# Altium footprint library SIP900W100P500L1000H1250Q2.PcbLib: 1 footprints
Each footprint in its own frame and in the unit in brackets; x right, y up, seen from the top. Pads: shape width x height; smd on the part's side, far side on the other; paste and mask are expansions set on the pad; w line width, h text height; cw(c..) or ccw(c..) is an arc to the next point about the centre after c.
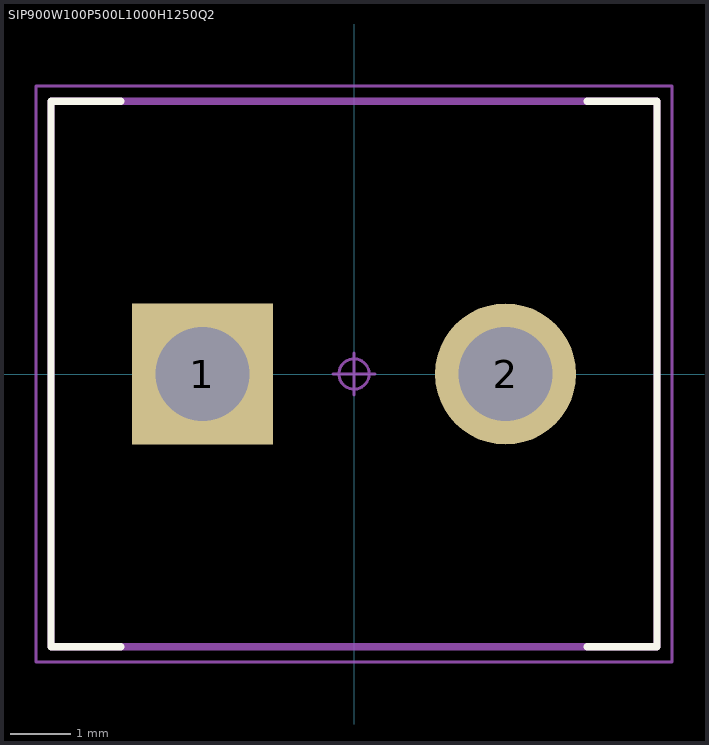
[diagram p0: the footprint, top view; thin cyan lines are the x and y axes]

## SIP900W100P500L1000H1250Q2 [mm] "SIP, 5.00 mm pitch; 2 pin, 10.00 mm L X 9.00 mm W X 12.50 mm H body"
height 12.5
pads (2):
  rect 2.33x2.33 / inner round 2.33 / far side rect 2.33x2.33 hole 1.55 paste-2.33: 1(-2.5,0)
  round 2.33 hole 1.55 paste-2.33: 2(2.5,0)
Top Overlay:
  lines w0.12: -3.845,-4.5 -5,-4.5 -5,4.5 -3.845,4.5 ; 3.845,-4.5 5,-4.5 5,4.5 3.845,4.5
Mechanical 3:
  lines w0.12: -5,-4.5 5,-4.5 5,4.5 -5,4.5 -5,-4.5
Mechanical 5:
  lines w0.025: -3,-0.5 -3,0.5 -2,0.5 -2,-0.5 -3,-0.5 ; 2,-0.5 2,0.5 3,0.5 3,-0.5 2,-0.5
Mechanical 7:
  circle w0.05: c0,0 r0.25
  lines w0.025: -5,-4.5 5,-4.5 5,4.5 -5,4.5 -5,-4.5
  lines w0.05: -0.35,0 0.35,0 ; 0,-0.35 0,0.35 ; -5.25,-4.75 5.25,-4.75 5.25,4.75 -5.25,4.75 -5.25,-4.75
3D body "SIP900W100P500L1000H1250Q2.STEP": height 12.5, standoff -2, extent -5,-4.5 5,4.5